# Altium footprint library ADL5562ACPZ-R7.PcbLib: 3 footprints
Each footprint in its own frame and in the unit in brackets; x right, y up, seen from the top. Pads: shape width x height; smd on the part's side, far side on the other; paste and mask are expansions set on the pad; w line width, h text height; cw(c..) or ccw(c..) is an arc to the next point about the centre after c.
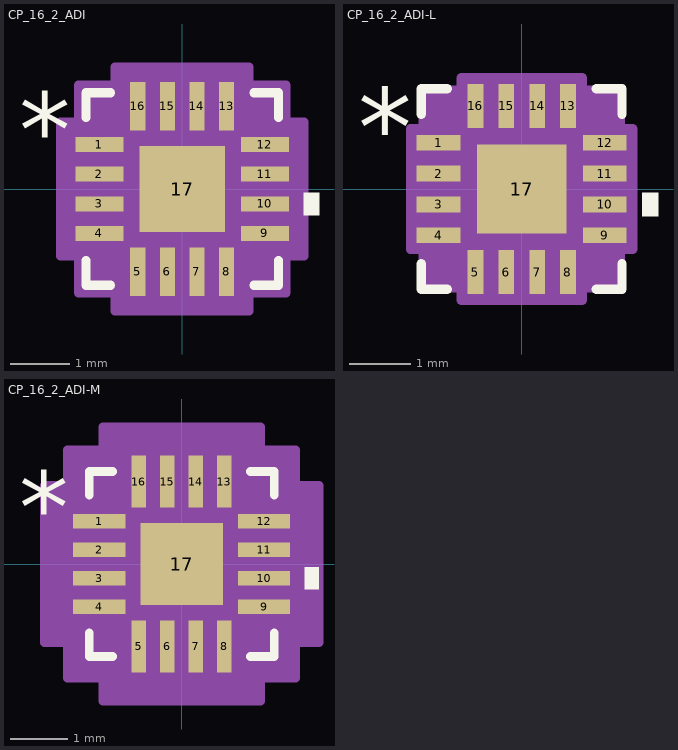
[diagram p0: the footprints below, top view; thin cyan lines are the x and y axes]

## CP_16_2_ADI [mil]
pads (17):
  rect 32x10 smd paste+0 mask+0: 1(-55,29.53) 2(-55,9.84) 3(-55,-9.84) 4(-55,-29.53) 9(55,-29.53) 10(55,-9.84) 11(55,9.84) 12(55,29.53)
  rect 10x32 smd paste+0 mask+0: 5(-29.53,-55) 6(-9.84,-55) 7(9.84,-55) 8(29.53,-55) 13(29.53,55) 14(9.84,55) 15(-9.84,55) 16(-29.53,55)
  rect 57x57 smd paste+0 mask+0: 17(0,0)
Top Overlay:
  region: 81,-2.34 91,-2.34 91,-17.34 81,-17.34
  lines w6: -64,-47.63 -64,-64 -47.63,-64 ; -64,47.63 -64,64 -47.63,64 ; 47.63,-64 64,-64 64,-47.63 ; 47.63,64 64,64 64,47.63
  text "*" at -108.5,14.37 h50
Mechanical 13:
  lines w1: -59,9 -9,59 ; -59,-59 59,-59 ; -59,-59 -59,59 ; -59,-59 -59,-59 ; -59,-35.53 -59,-23.53 ; -59,-35.53 -59,-23.53 ; -59,-35.53 -59,-35.53 ; -59,-23.53 -59,-23.53 ; -59,-15.84 -59,-3.84 ; -59,-15.84 -59,-3.84 ; -59,-15.84 -59,-15.84 ; -59,-3.84 -59,-3.84 ; -59,3.84 -59,15.84 ; -59,3.84 -59,15.84 ; -59,3.84 -59,3.84 ; -59,15.84 -59,15.84 ; -59,23.53 -59,35.53 ; -59,23.53 -59,35.53 ; -59,23.53 -59,23.53 ; -59,35.53 -59,35.53 ; -59,59 59,59 ; -59,59 -59,59 ; -35.53,-59 -23.53,-59 ; -35.53,-59 -35.53,-59 ; -35.53,-59 -23.53,-59 ; -35.53,59 -23.53,59 ; -35.53,59 -23.53,59 ; -35.53,59 -35.53,59 ; -23.53,-59 -23.53,-59 ; -23.53,59 -23.53,59 ; -15.84,-59 -3.84,-59 ; -15.84,-59 -15.84,-59 ; -15.84,-59 -3.84,-59 ; -15.84,59 -3.84,59 ; -15.84,59 -3.84,59 ; -15.84,59 -15.84,59 ; -3.84,-59 -3.84,-59 ; -3.84,59 -3.84,59 ; 3.84,-59 15.84,-59 ; 3.84,-59 3.84,-59 ; 3.84,-59 15.84,-59 ; 3.84,59 15.84,59 ; 3.84,59 15.84,59 ; 3.84,59 3.84,59 ; 15.84,-59 15.84,-59 ; 15.84,59 15.84,59 ; 23.53,-59 35.53,-59 ; 23.53,-59 23.53,-59 ; 23.53,-59 35.53,-59 ; 23.53,59 35.53,59 ; 23.53,59 35.53,59 ; 23.53,59 23.53,59 ; 35.53,-59 35.53,-59 ; 35.53,59 35.53,59 ; 59,-59 59,-59 ; 59,-59 59,59 ; 59,-35.53 59,-23.53 ; 59,-35.53 59,-35.53 ; 59,-35.53 59,-23.53 ; 59,-23.53 59,-23.53 ; 59,-15.84 59,-3.84 ; 59,-15.84 59,-15.84 ; 59,-15.84 59,-3.84 ; 59,-3.84 59,-3.84 ; 59,3.84 59,15.84 ; 59,3.84 59,3.84 ; 59,3.84 59,15.84 ; 59,15.84 59,15.84 ; 59,23.53 59,35.53 ; 59,23.53 59,23.53 ; 59,23.53 59,35.53 ; 59,35.53 59,35.53 ; 59,59 59,59
  text "*" at -51.5,14.37 h50
Mechanical 15:
  region: -44.53,-69 -69,-69 -69,-44.53 -81,-44.53 -81,44.53 -69,44.53 -69,69 -44.53,69 -44.53,81 44.53,81 44.53,69 69,69 69,44.53 81,44.53 81,-44.53 69,-44.53 69,-69 44.53,-69 44.53,-81 -44.53,-81
  lines w6: -81,-44.53 -69,-44.53 -69,-69 -44.53,-69 -44.53,-81 44.53,-81 44.53,-69 69,-69 69,-44.53 81,-44.53 81,44.53 69,44.53 69,69 44.53,69 44.53,81 -44.53,81 -44.53,69 -69,69 -69,44.53 -81,44.53 -81,-44.53
3D body "CP_16_2_ADI.step": height 39.09, standoff 0, extent -59.02,-59.02 59.02,59.02

## CP_16_2_ADI-L [mil]
pads (17):
  rect 28x10 smd paste+0 mask+0: 1(-53,29.53) 2(-53,9.84) 3(-53,-9.84) 4(-53,-29.53) 9(53,-29.53) 10(53,-9.84) 11(53,9.84) 12(53,29.53)
  rect 10x28 smd paste+0 mask+0: 5(-29.53,-53) 6(-9.84,-53) 7(9.84,-53) 8(29.53,-53) 13(29.53,53) 14(9.84,53) 15(-9.84,53) 16(-29.53,53)
  rect 57x57 smd paste+0 mask+0: 17(0,0)
Top Overlay:
  region: 77,-2.34 87,-2.34 87,-17.34 77,-17.34
  lines w6: -64,-47.63 -64,-64 -47.63,-64 ; -64,47.63 -64,64 -47.63,64 ; 47.63,-64 64,-64 64,-47.63 ; 47.63,64 64,64 64,47.63
  text "*" at -104.5,14.37 h50
Mechanical 13:
  lines w1: -59,9 -9,59 ; -59,-59 59,-59 ; -59,-59 -59,59 ; -59,-59 -59,-59 ; -59,-35.53 -59,-23.53 ; -59,-35.53 -59,-23.53 ; -59,-35.53 -59,-35.53 ; -59,-23.53 -59,-23.53 ; -59,-15.84 -59,-3.84 ; -59,-15.84 -59,-3.84 ; -59,-15.84 -59,-15.84 ; -59,-3.84 -59,-3.84 ; -59,3.84 -59,15.84 ; -59,3.84 -59,15.84 ; -59,3.84 -59,3.84 ; -59,15.84 -59,15.84 ; -59,23.53 -59,35.53 ; -59,23.53 -59,35.53 ; -59,23.53 -59,23.53 ; -59,35.53 -59,35.53 ; -59,59 59,59 ; -59,59 -59,59 ; -35.53,-59 -23.53,-59 ; -35.53,-59 -35.53,-59 ; -35.53,-59 -23.53,-59 ; -35.53,59 -23.53,59 ; -35.53,59 -23.53,59 ; -35.53,59 -35.53,59 ; -23.53,-59 -23.53,-59 ; -23.53,59 -23.53,59 ; -15.84,-59 -3.84,-59 ; -15.84,-59 -15.84,-59 ; -15.84,-59 -3.84,-59 ; -15.84,59 -3.84,59 ; -15.84,59 -3.84,59 ; -15.84,59 -15.84,59 ; -3.84,-59 -3.84,-59 ; -3.84,59 -3.84,59 ; 3.84,-59 15.84,-59 ; 3.84,-59 3.84,-59 ; 3.84,-59 15.84,-59 ; 3.84,59 15.84,59 ; 3.84,59 15.84,59 ; 3.84,59 3.84,59 ; 15.84,-59 15.84,-59 ; 15.84,59 15.84,59 ; 23.53,-59 35.53,-59 ; 23.53,-59 23.53,-59 ; 23.53,-59 35.53,-59 ; 23.53,59 35.53,59 ; 23.53,59 35.53,59 ; 23.53,59 23.53,59 ; 35.53,-59 35.53,-59 ; 35.53,59 35.53,59 ; 59,-59 59,-59 ; 59,-59 59,59 ; 59,-35.53 59,-23.53 ; 59,-35.53 59,-35.53 ; 59,-35.53 59,-23.53 ; 59,-23.53 59,-23.53 ; 59,-15.84 59,-3.84 ; 59,-15.84 59,-15.84 ; 59,-15.84 59,-3.84 ; 59,-3.84 59,-3.84 ; 59,3.84 59,15.84 ; 59,3.84 59,3.84 ; 59,3.84 59,15.84 ; 59,15.84 59,15.84 ; 59,23.53 59,35.53 ; 59,23.53 59,23.53 ; 59,23.53 59,35.53 ; 59,35.53 59,35.53 ; 59,59 59,59
  text "*" at -51.5,14.37 h50
Mechanical 15:
  region: -38.53,-63 -63,-63 -63,-38.53 -71,-38.53 -71,38.53 -63,38.53 -63,63 -38.53,63 -38.53,71 38.53,71 38.53,63 63,63 63,38.53 71,38.53 71,-38.53 63,-38.53 63,-63 38.53,-63 38.53,-71 -38.53,-71
  lines w6: -71,-38.53 -63,-38.53 -63,-63 -38.53,-63 -38.53,-71 38.53,-71 38.53,-63 63,-63 63,-38.53 71,-38.53 71,38.53 63,38.53 63,63 38.53,63 38.53,71 -38.53,71 -38.53,63 -63,63 -63,38.53 -71,38.53 -71,-38.53
3D body "CP_16_2_ADI.step": height 39.09, standoff 0, extent -59.02,-59.02 59.02,59.02

## CP_16_2_ADI-M [mil]
pads (17):
  rect 36x10 smd paste+0 mask+0: 1(-57,29.53) 2(-57,9.84) 3(-57,-9.84) 4(-57,-29.53) 9(57,-29.53) 10(57,-9.84) 11(57,9.84) 12(57,29.53)
  rect 10x36 smd paste+0 mask+0: 5(-29.53,-57) 6(-9.84,-57) 7(9.84,-57) 8(29.53,-57) 13(29.53,57) 14(9.84,57) 15(-9.84,57) 16(-29.53,57)
  rect 57x57 smd paste+0 mask+0: 17(0,0)
Top Overlay:
  region: 85,-2.34 95,-2.34 95,-17.34 85,-17.34
  lines w6: -64,-47.63 -64,-64 -47.63,-64 ; -64,47.63 -64,64 -47.63,64 ; 47.63,-64 64,-64 64,-47.63 ; 47.63,64 64,64 64,47.63
  text "*" at -112.5,14.37 h50
Mechanical 13:
  lines w1: -59,9 -9,59 ; -59,-59 59,-59 ; -59,-59 -59,59 ; -59,-59 -59,-59 ; -59,-35.53 -59,-23.53 ; -59,-35.53 -59,-23.53 ; -59,-35.53 -59,-35.53 ; -59,-23.53 -59,-23.53 ; -59,-15.84 -59,-3.84 ; -59,-15.84 -59,-3.84 ; -59,-15.84 -59,-15.84 ; -59,-3.84 -59,-3.84 ; -59,3.84 -59,15.84 ; -59,3.84 -59,15.84 ; -59,3.84 -59,3.84 ; -59,15.84 -59,15.84 ; -59,23.53 -59,35.53 ; -59,23.53 -59,35.53 ; -59,23.53 -59,23.53 ; -59,35.53 -59,35.53 ; -59,59 59,59 ; -59,59 -59,59 ; -35.53,-59 -23.53,-59 ; -35.53,-59 -35.53,-59 ; -35.53,-59 -23.53,-59 ; -35.53,59 -23.53,59 ; -35.53,59 -23.53,59 ; -35.53,59 -35.53,59 ; -23.53,-59 -23.53,-59 ; -23.53,59 -23.53,59 ; -15.84,-59 -3.84,-59 ; -15.84,-59 -15.84,-59 ; -15.84,-59 -3.84,-59 ; -15.84,59 -3.84,59 ; -15.84,59 -3.84,59 ; -15.84,59 -15.84,59 ; -3.84,-59 -3.84,-59 ; -3.84,59 -3.84,59 ; 3.84,-59 15.84,-59 ; 3.84,-59 3.84,-59 ; 3.84,-59 15.84,-59 ; 3.84,59 15.84,59 ; 3.84,59 15.84,59 ; 3.84,59 3.84,59 ; 15.84,-59 15.84,-59 ; 15.84,59 15.84,59 ; 23.53,-59 35.53,-59 ; 23.53,-59 23.53,-59 ; 23.53,-59 35.53,-59 ; 23.53,59 35.53,59 ; 23.53,59 35.53,59 ; 23.53,59 23.53,59 ; 35.53,-59 35.53,-59 ; 35.53,59 35.53,59 ; 59,-59 59,-59 ; 59,-59 59,59 ; 59,-35.53 59,-23.53 ; 59,-35.53 59,-35.53 ; 59,-35.53 59,-23.53 ; 59,-23.53 59,-23.53 ; 59,-15.84 59,-3.84 ; 59,-15.84 59,-15.84 ; 59,-15.84 59,-3.84 ; 59,-3.84 59,-3.84 ; 59,3.84 59,15.84 ; 59,3.84 59,3.84 ; 59,3.84 59,15.84 ; 59,15.84 59,15.84 ; 59,23.53 59,35.53 ; 59,23.53 59,23.53 ; 59,23.53 59,35.53 ; 59,35.53 59,35.53 ; 59,59 59,59
  text "*" at -51.5,14.37 h50
Mechanical 15:
  region: -54.53,-79 -79,-79 -79,-54.53 -95,-54.53 -95,54.53 -79,54.53 -79,79 -54.53,79 -54.53,95 54.53,95 54.53,79 79,79 79,54.53 95,54.53 95,-54.53 79,-54.53 79,-79 54.53,-79 54.53,-95 -54.53,-95
  lines w6: -95,-54.53 -79,-54.53 -79,-79 -54.53,-79 -54.53,-95 54.53,-95 54.53,-79 79,-79 79,-54.53 95,-54.53 95,54.53 79,54.53 79,79 54.53,79 54.53,95 -54.53,95 -54.53,79 -79,79 -79,54.53 -95,54.53 -95,-54.53
3D body "CP_16_2_ADI.step": height 39.09, standoff 0, extent -59.02,-59.02 59.02,59.02